# Altium footprint library Chip Resistor Array.PcbLib: 2 footprints
Each footprint in its own frame and in the unit in brackets; x right, y up, seen from the top. Pads: shape width x height; smd on the part's side, far side on the other; paste and mask are expansions set on the pad; w line width, h text height; cw(c..) or ccw(c..) is an arc to the next point about the centre after c.
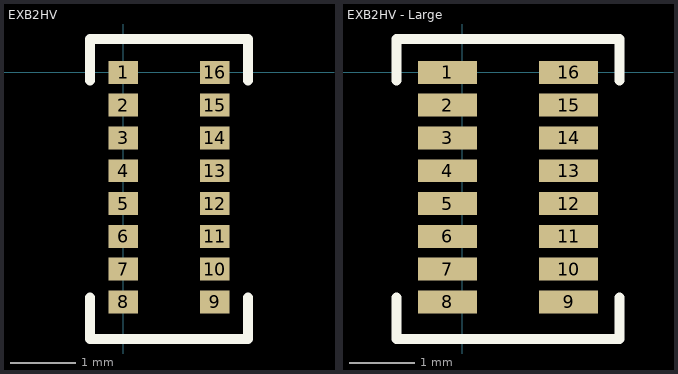
[diagram p0: the footprints below, top view; thin cyan lines are the x and y axes]

## EXB2HV [mm]
pads (16):
  rect 0.45x0.35 smd mask+0.076: 1(0,0) 2(0,-0.5) 3(0,-1) 4(0,-1.5) 5(0,-2) 6(0,-2.5) 7(0,-3) 8(0,-3.5) 9(1.397,-3.5) 10(1.397,-3) 11(1.397,-2.5) 12(1.397,-2) 13(1.397,-1.5) 14(1.397,-1) 15(1.397,-0.5) 16(1.397,0)
Top Overlay:
  lines w0.152: -0.508,-3.429 -0.508,-4.064 1.905,-4.064 1.905,-3.429 ; -0.508,-0.127 -0.508,0.508 1.905,0.508 1.905,-0.127
3D body: height 0.45, standoff 0, extent 0.127,-3.751 1.27,0.251
3D body: height 0.2, standoff 0, extent -0.127,-0.126 0.127,0.126
3D body: height 0.2, standoff 0, extent -0.127,-0.626 0.127,-0.374
3D body: height 0.2, standoff 0, extent -0.127,-1.126 0.127,-0.874
3D body: height 0.2, standoff 0, extent -0.127,-1.626 0.127,-1.374
3D body: height 0.2, standoff 0, extent -0.127,-2.126 0.127,-1.874
3D body: height 0.2, standoff 0, extent -0.127,-2.626 0.127,-2.374
3D body: height 0.2, standoff 0, extent -0.127,-3.126 0.127,-2.874
3D body: height 0.2, standoff 0, extent -0.127,-3.626 0.127,-3.374
3D body: height 0.2, standoff 0, extent 1.27,-3.626 1.524,-3.374
3D body: height 0.2, standoff 0, extent 1.27,-3.126 1.524,-2.874
3D body: height 0.2, standoff 0, extent 1.27,-2.626 1.524,-2.374
3D body: height 0.2, standoff 0, extent 1.27,-2.126 1.524,-1.874
3D body: height 0.2, standoff 0, extent 1.27,-1.626 1.524,-1.374
3D body: height 0.2, standoff 0, extent 1.27,-1.126 1.524,-0.874
3D body: height 0.2, standoff 0, extent 1.27,-0.626 1.524,-0.374
3D body: height 0.2, standoff 0, extent 1.27,-0.126 1.524,0.126

## EXB2HV - Large [mm]
pads (16):
  rect 0.9x0.35 smd mask+0.076: 1(-0.225,0) 2(-0.225,-0.5) 3(-0.225,-1) 4(-0.225,-1.5) 5(-0.225,-2) 6(-0.225,-2.5) 7(-0.225,-3) 8(-0.225,-3.5) 9(1.625,-3.5) 10(1.625,-3) 11(1.625,-2.5) 12(1.625,-2) 13(1.625,-1.5) 14(1.625,-1) 15(1.625,-0.5) 16(1.625,0)
Top Overlay:
  lines w0.152: -1,-3.429 -1,-4.064 2.4,-4.064 2.4,-3.429 ; -1,-0.127 -1,0.508 2.4,0.508 2.4,-0.127
3D body: height 0.45, standoff 0, extent 0.127,-3.751 1.27,0.251
3D body: height 0.2, standoff 0, extent -0.127,-0.126 0.127,0.126
3D body: height 0.2, standoff 0, extent -0.127,-0.626 0.127,-0.374
3D body: height 0.2, standoff 0, extent -0.127,-1.126 0.127,-0.874
3D body: height 0.2, standoff 0, extent -0.127,-1.626 0.127,-1.374
3D body: height 0.2, standoff 0, extent -0.127,-2.126 0.127,-1.874
3D body: height 0.2, standoff 0, extent -0.127,-2.626 0.127,-2.374
3D body: height 0.2, standoff 0, extent -0.127,-3.126 0.127,-2.874
3D body: height 0.2, standoff 0, extent -0.127,-3.626 0.127,-3.374
3D body: height 0.2, standoff 0, extent 1.27,-3.626 1.524,-3.374
3D body: height 0.2, standoff 0, extent 1.27,-3.126 1.524,-2.874
3D body: height 0.2, standoff 0, extent 1.27,-2.626 1.524,-2.374
3D body: height 0.2, standoff 0, extent 1.27,-2.126 1.524,-1.874
3D body: height 0.2, standoff 0, extent 1.27,-1.626 1.524,-1.374
3D body: height 0.2, standoff 0, extent 1.27,-1.126 1.524,-0.874
3D body: height 0.2, standoff 0, extent 1.27,-0.626 1.524,-0.374
3D body: height 0.2, standoff 0, extent 1.27,-0.126 1.524,0.126